# EAGLE library part 74F139 (library A3660)
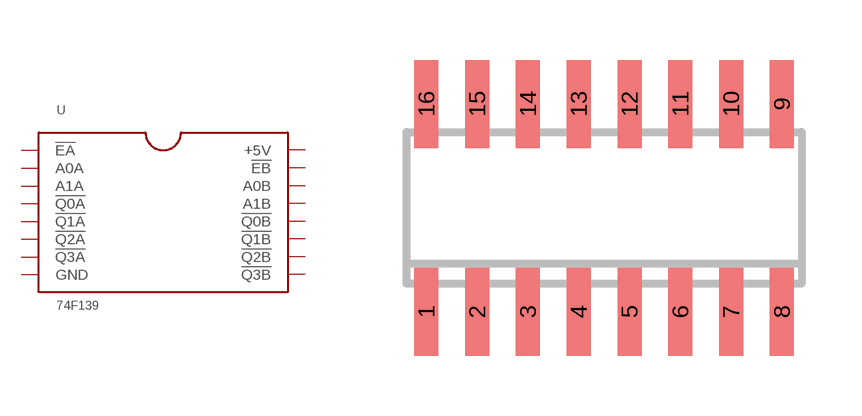
[diagram p11: symbol with the pads of 74F139; footprint 74F139]

Designator prefix -

## 74F139  [74F139]
1  !EA
2  A0A
3  A1A
4  !Q0A
5  !Q1A
6  !Q2A
7  !Q3A
8  GND  pwr
9  !Q3B
10  !Q2B
11  !Q1B
12  !Q0B
13  A1B
14  A0B
15  !EB
16  +5V  pwr

## Footprint 74F139 (pad centres in mm)
smd 0.6 x 2.2: 1 -3.175,-2.6; 2 -1.905,-2.6; 3 -0.635,-2.6; 4 0.635,-2.6; 5 1.905,-2.6; 6 3.175,-2.6; 7 4.445,-2.6; 8 5.715,-2.6; 9 5.715,2.6; 10 4.445,2.6; 11 3.175,2.6; 12 1.905,2.6; 13 0.635,2.6; 14 -0.635,2.6; 15 -1.905,2.6; 16 -3.175,2.6